# Altium schematic symbol library SCH - MCU - NUVOTON - NUVOTON ML51UC0AE.SchLib: 1 symbol
Pins are listed as number, name and electrical type; pins without a type are passive.

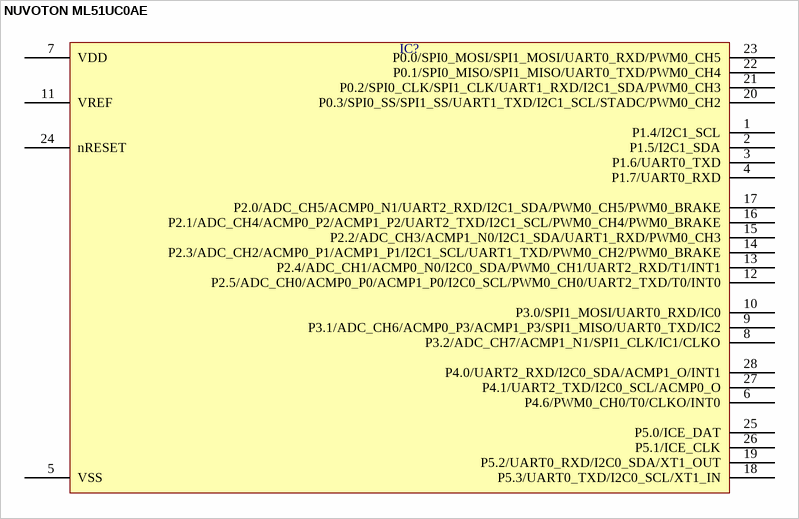
[diagram p0: symbol NUVOTON ML51UC0AE]

## NUVOTON ML51UC0AE
designator IC?  (value not drawn)
pins: 1 P1.4/I2C1_SCL, 2 P1.5/I2C1_SDA, 3 P1.6/UART0_TXD, 4 P1.7/UART0_RXD, 5 VSS, 6 P4.6/PWM0_CH0/T0/CLKO/INT0, 7 VDD, 8 P3.2/ADC_CH7/ACMP1_N1/SPI1_CLK/IC1/CLKO, 9 P3.1/ADC_CH6/ACMP0_P3/ACMP1_P3/SPI1_MISO/UART0_TXD/IC2, 10 P3.0/SPI1_MOSI/UART0_RXD/IC0, 11 VREF, 12 P2.5/ADC_CH0/ACMP0_P0/ACMP1_P0/I2C0_SCL/PWM0_CH0/UART2_TXD/T0/INT0, 13 P2.4/ADC_CH1/ACMP0_N0/I2C0_SDA/PWM0_CH1/UART2_RXD/T1/INT1, 14 P2.3/ADC_CH2/ACMP0_P1/ACMP1_P1/I2C1_SCL/UART1_TXD/PWM0_CH2/PWM0_BRAKE, 15 P2.2/ADC_CH3/ACMP1_N0/I2C1_SDA/UART1_RXD/PWM0_CH3, 16 P2.1/ADC_CH4/ACMP0_P2/ACMP1_P2/UART2_TXD/I2C1_SCL/PWM0_CH4/PWM0_BRAKE, 17 P2.0/ADC_CH5/ACMP0_N1/UART2_RXD/I2C1_SDA/PWM0_CH5/PWM0_BRAKE, 18 P5.3/UART0_TXD/I2C0_SCL/XT1_IN, 19 P5.2/UART0_RXD/I2C0_SDA/XT1_OUT, 20 P0.3/SPI0_SS/SPI1_SS/UART1_TXD/I2C1_SCL/STADC/PWM0_CH2, 21 P0.2/SPI0_CLK/SPI1_CLK/UART1_RXD/I2C1_SDA/PWM0_CH3, 22 P0.1/SPI0_MISO/SPI1_MISO/UART0_TXD/PWM0_CH4, 23 P0.0/SPI0_MOSI/SPI1_MOSI/UART0_RXD/PWM0_CH5, 24 nRESET, 25 P5.0/ICE_DAT, 26 P5.1/ICE_CLK, 27 P4.1/UART2_TXD/I2C0_SCL/ACMP0_O, 28 P4.0/UART2_RXD/I2C0_SDA/ACMP1_O/INT1